# Altium footprint library XTR117.PCBLIB: 2 footprints
Each footprint in its own frame and in the unit in brackets; x right, y up, seen from the top. Pads: shape width x height; smd on the part's side, far side on the other; paste and mask are expansions set on the pad; w line width, h text height; cw(c..) or ccw(c..) is an arc to the next point about the centre after c.
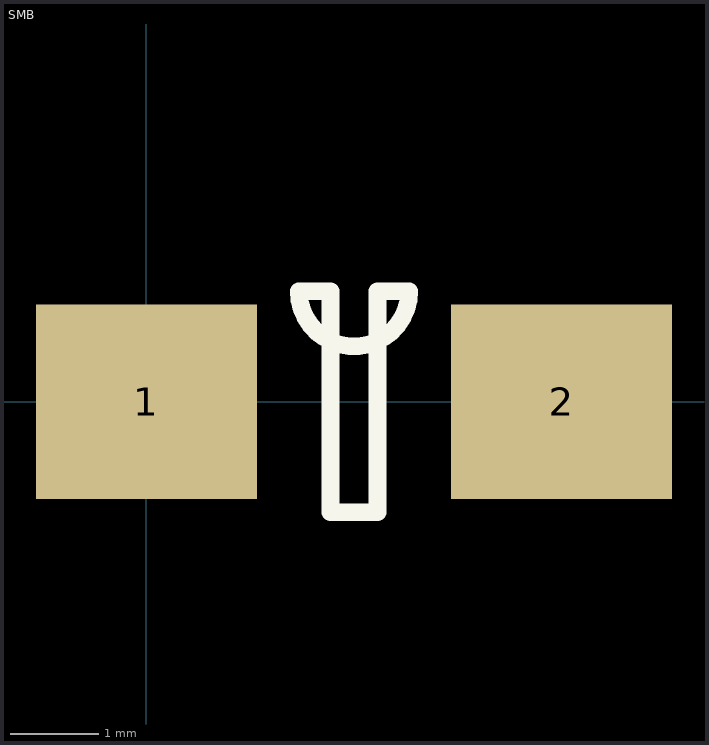
[diagram p0: the footprints below, top view; thin cyan lines are the x and y axes]

## PCBComponent_1 [mm]

## SMB [mm]
pads (2):
  rect 2.5x2.2 smd: 1(0,0) 2(4.7,0)
Top Overlay:
  lines w0.2: 1.725,1.25 ccw(c2.35,1.25) 2.975,1.25 2.615,1.25 2.615,-1.25 2.085,-1.25 2.085,1.25 1.725,1.25